# Altium schematic symbol library LC_FILTER-STD.SchLib: 1 symbol
Pins are listed as number, name and electrical type; pins without a type are passive.

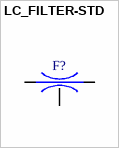
[diagram p0: symbol LC_FILTER-STD]

## LC_FILTER-STD
designator F?  (value not drawn)
pins: 1 A, 2 B, 3 G